# Altium schematic symbol library MAX680CSA+.SchLib: 1 symbol
Pins are listed as number, name and electrical type; pins without a type are passive.

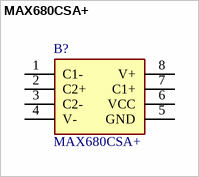
[diagram p0: symbol MAX680CSA+]

## MAX680CSA+
designator B?
Charge Pump INV/STPUP  10V 10mA; Manufacturer_Name: Analog Devices; Geometry.Height: 1.75mm; Mouser Part Number: 700-MAX680CSA; Mouser Price/Stock: https://www.mouser.co.uk/ProductDetail/Analog-Devices-Maxim-Integrated/MAX680CSA%2b?qs=1THa7WoU59GmJru%252B3pd8uQ%3D%3D; Manufacturer_Part_Number: MAX680CSA+; Datasheet Link: https://datasheet.datasheetarchive.com/originals/distributors/Datasheets-18/DSA-340121.pdf
footprint SOIC127P600X175-8N
pins: 1 C1-, 2 C2+, 3 C2-, 4 V-, 5 GND, 6 VCC, 7 C1+, 8 V+